# EAGLE library part VFD (library RalimTek)
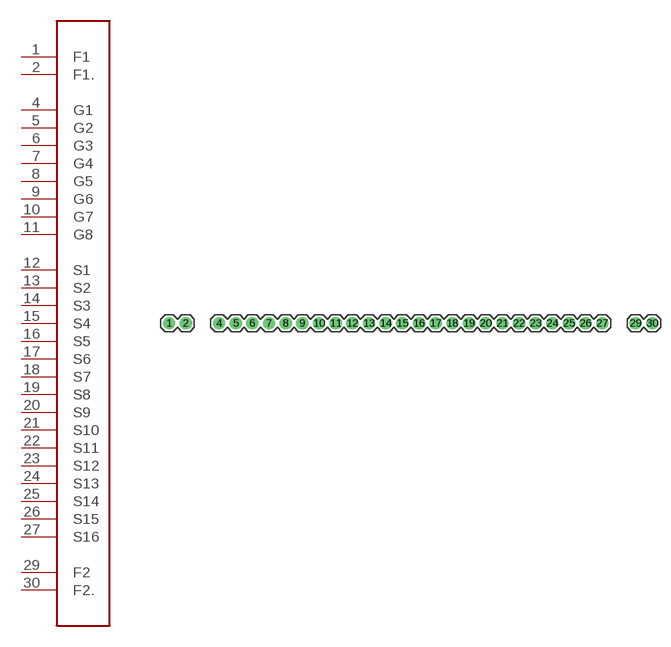
[diagram p28: symbol with the pads of 1X30; footprint 1X30]

Designator prefix -

## VFD  [1X30]
1  F1
2  F1.
4  G1
5  G2
6  G3
7  G4
8  G5
9  G6
10  G7
11  G8
12  S1
13  S2
14  S3
15  S4
16  S5
17  S6
18  S7
19  S8
20  S9
21  S10
22  S11
23  S12
24  S13
25  S14
26  S15
27  S16
29  F2
30  F2.

## Footprint 1X30 (pad centres in mm)
drill 1.016 pad 1.88: 1 0,0; 2 2.54,0; 4 7.62,0; 5 10.16,0; 6 12.7,0; 7 15.24,0; 8 17.78,0; 9 20.32,0; 10 22.86,0; 11 25.4,0; 12 27.94,0; 13 30.48,0; 14 33.02,0; 15 35.56,0; 16 38.1,0; 17 40.64,0; 18 43.18,0; 19 45.72,0; 20 48.26,0; 21 50.8,0; 22 53.34,0; 23 55.88,0; 24 58.42,0; 25 60.96,0; 26 63.5,0; 27 66.04,0; 29 71.12,0; 30 73.66,0